# Altium schematic symbol library 0805_R300.SCHLIB: 1 symbol
Pins are listed as number, name and electrical type; pins without a type are passive.

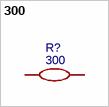
[diagram p0: symbol 300]

## 300
designator R?
BOM_Manufacturer: ResistorToday; BOM_Manufacturer Part: AECR0805F300RK9; nameAlias: Resistance (Ohms); Contributor: LCSC; BOM_Supplier: LCSC; BOM_Supplier Part: C352224; spicePre: R; spiceSymbolName: AECR0805F300RK9
footprint R0805
pins: 1, 2